# Altium schematic symbol library idc.SchLib: 19 symbols
Pins are listed as number, name and electrical type; pins without a type are passive.

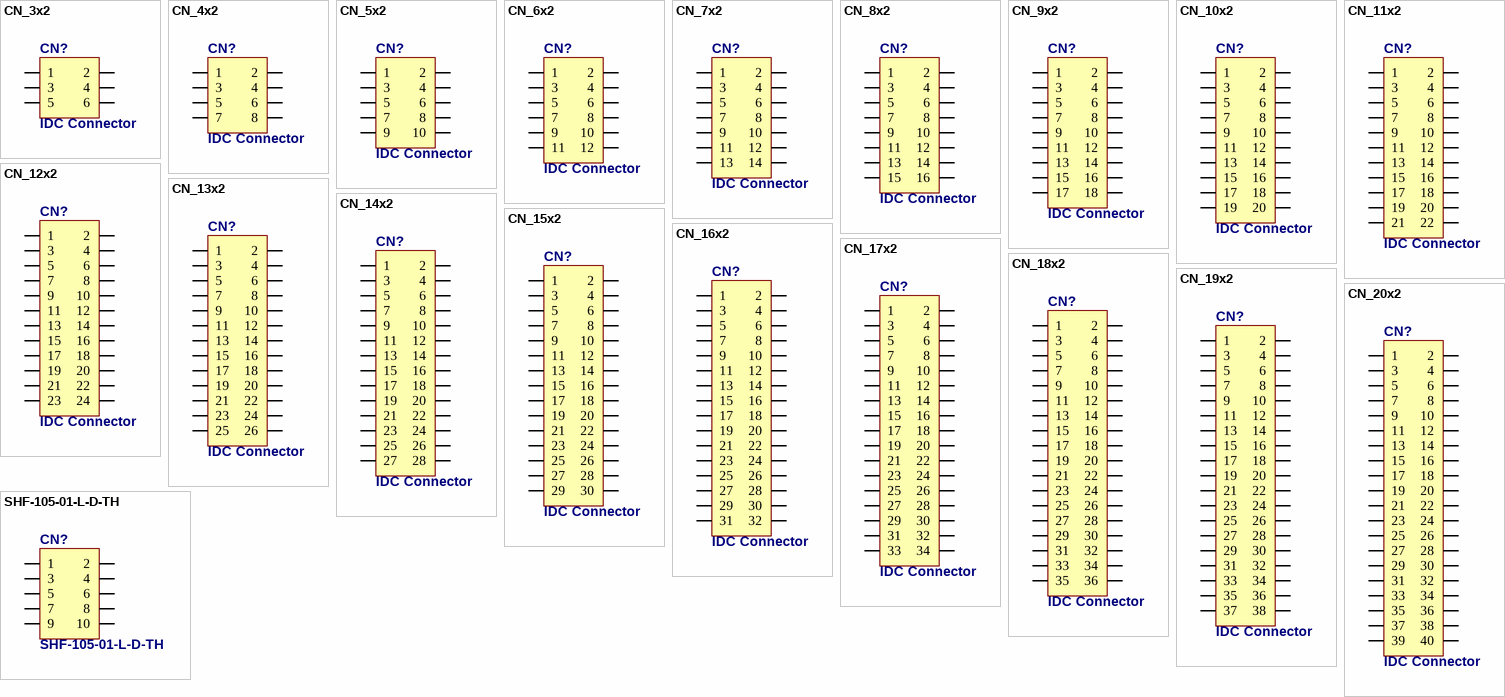
[diagram p0: symbols CN_3x2 to SHF-105-01-L-D-TH]

## CN_3x2
designator CN?, comment IDC Connector
footprint IDC6 (2.54mm, 6 Pin IDC Male Connector)
footprint IDC6_RA (2.54mm, 6 Pin IDC Male Connector)
footprint IDC6_SMD (2.54mm, 6 Pin IDC Male Connector, SMD)
pins: 1, 2, 3, 4, 5, 6

## CN_4x2
designator CN?, comment IDC Connector
pins: 1, 2, 3, 4, 5, 6, 7, 8

## CN_5x2
designator CN?, comment IDC Connector
footprint IDC10 (2.54mm, 10 Pin IDC Male Connector)
footprint IDC10_LL (2.54mm, 10 Pin IDC Male Connector, Long Locking Levers)
footprint IDC10_PT (2.54mm, 10 Pin IDC Plug Dip Type)
footprint IDC10_SMD (2.54mm, 10 Pin IDC Male Connector, SMD)
footprint IDC10_RA_LONG (2.54mm, 10 Pin IDC Male Connector, Right Angle)
footprint IDC10_RA_SHORT (2.54mm, 10 Pin IDC Male Connector, Right Angle)
pins: 1, 2, 3, 4, 5, 6, 7, 8, 9, 10

## CN_6x2
designator CN?, comment IDC Connector
footprint IDC12 (2.54mm, 12 Pin IDC Male Connector)
footprint IDC12_RA (2.54mm, 12 Pin IDC Male Connector, Right Angle)
pins: 1, 2, 3, 4, 5, 6, 7, 8, 9, 10, 11, 12

## CN_7x2
designator CN?, comment IDC Connector
footprint IDC14 (2.54mm, 14 Pin IDC Male Connector)
footprint IDC14_RA (2.54mm, 14 Pin IDC Male Connector, Right Angle)
footprint IDC14_RA_W_CN (2.54mm, 14 Pin IDC Male Connector, Right Angle)
footprint IDC14_W_CN (2.54mm, 14 Pin IDC Male Connector)
footprint IDC14_DIRECT (2.54mm, 14 Pin IDC Low Profile PCB Wire Bonding)
pins: 1, 2, 3, 4, 5, 6, 7, 8, 9, 10, 11, 12, 13, 14

## CN_8x2
designator CN?, comment IDC Connector
footprint IDC16 (2.54mm, 16 Pin IDC Male Connector)
footprint IDC16_RA (2.54mm, 16 Pin IDC Male Connector, Right Angle)
pins: 1, 2, 3, 4, 5, 6, 7, 8, 9, 10, 11, 12, 13, 14, 15, 16

## CN_9x2
designator CN?, comment IDC Connector
footprint Model Name (Footprint not found)
pins: 1, 2, 3, 4, 5, 6, 7, 8, 9, 10, 11, 12, 13, 14, 15, 16, 17, 18

## CN_10x2
designator CN?, comment IDC Connector
footprint IDC20 (2.54mm, 20 Pin IDC Male Connector)
footprint IDC20_RA (2.54mm, 20 Pin IDC Male Connector, Right Angle)
pins: 1, 2, 3, 4, 5, 6, 7, 8, 9, 10, 11, 12, 13, 14, 15, 16, 17, 18, 19, 20

## CN_11x2
designator CN?, comment IDC Connector
pins: 1, 2, 3, 4, 5, 6, 7, 8, 9, 10, 11, 12, 13, 14, 15, 16, 17, 18, 19, 20, 21, 22

## CN_12x2
designator CN?, comment IDC Connector
footprint IDC24 (2.54mm, 24 Pin IDC Male Connector)
footprint IDC24_RA (2.54mm, 24 Pin IDC Male Connector, Right Angle)
footprint IDC24_SMD (2.54mm, 24 Pin IDC Male Connector, SMD)
footprint IDC24_SMD_W_CN (2.54mm, 24 Pin IDC Male Connector, SMD)
footprint IDC24_RA _W_CN (2.54mm, 24 Pin IDC Male Connector, Right Angle)
footprint IDC24_W_CN (2.54mm, 24 Pin IDC Male Connector)
pins: 1, 2, 3, 4, 5, 6, 7, 8, 9, 10, 11, 12, 13, 14, 15, 16, 17, 18, 19, 20, 21, 22, 23, 24

## CN_13x2
designator CN?, comment IDC Connector
footprint IDC26 (2.54mm, 26 Pin IDC Male Connector)
footprint IDC26_RA (2.54mm, 26 Pin IDC Male Connector, Right Angle)
footprint IDC26_RA_W_CN (2.54mm, 26 Pin IDC Male Connector, Right Angle)
footprint IDC26_RA_LONG (2.54mm, 26 Pin IDC Male Connector, Right Angle)
footprint IDC26_RA_LONG_W_CN (2.54mm, 26 Pin IDC Male Connector, Right Angle)
pins: 1, 2, 3, 4, 5, 6, 7, 8, 9, 10, 11, 12, 13, 14, 15, 16, 17, 18, 19, 20, 21, 22, 23, 24, 25, 26

## CN_14x2
designator CN?, comment IDC Connector
pins: 1, 2, 3, 4, 5, 6, 7, 8, 9, 10, 11, 12, 13, 14, 15, 16, 17, 18, 19, 20, 21, 22, 23, 24, 25, 26, 27, 28

## CN_15x2
designator CN?, comment IDC Connector
footprint IDC30 (2.54mm, 30 Pin IDC Male Connector)
footprint IDC30_RA (2.54mm, 30 Pin IDC Male Connector, Right Angle)
pins: 1, 2, 3, 4, 5, 6, 7, 8, 9, 10, 11, 12, 13, 14, 15, 16, 17, 18, 19, 20, 21, 22, 23, 24, 25, 26, 27, 28, 29, 30

## CN_16x2
designator CN?, comment IDC Connector
pins: 1, 2, 3, 4, 5, 6, 7, 8, 9, 10, 11, 12, 13, 14, 15, 16, 17, 18, 19, 20, 21, 22, 23, 24, 25, 26, 27, 28, 29, 30, 31, 32

## CN_17x2
designator CN?, comment IDC Connector
footprint IDC34 (2.54mm, 34 Pin IDC Male Connector)
footprint IDC34_RA (2.54mm, 34 Pin IDC Male Connector, Right Angle)
pins: 1, 2, 3, 4, 5, 6, 7, 8, 9, 10, 11, 12, 13, 14, 15, 16, 17, 18, 19, 20, 21, 22, 23, 24, 25, 26, 27, 28, 29, 30, 31, 32, 33, 34

## CN_18x2
designator CN?, comment IDC Connector
pins: 1, 2, 3, 4, 5, 6, 7, 8, 9, 10, 11, 12, 13, 14, 15, 16, 17, 18, 19, 20, 21, 22, 23, 24, 25, 26, 27, 28, 29, 30, 31, 32, 33, 34, 35, 36

## CN_19x2
designator CN?, comment IDC Connector
pins: 1, 2, 3, 4, 5, 6, 7, 8, 9, 10, 11, 12, 13, 14, 15, 16, 17, 18, 19, 20, 21, 22, 23, 24, 25, 26, 27, 28, 29, 30, 31, 32, 33, 34, 35, 36, 37, 38

## CN_20x2
designator CN?, comment IDC Connector
footprint IDC40 (2.54mm, 40 Pin IDC Male Connector)
footprint IDC40_RA (2.54mm, 40 Pin IDC Male Connector, Right Angle)
footprint IDC40_SMD (2.54mm, 40 Pin IDC Male Connector, SMD)
pins: 1, 2, 3, 4, 5, 6, 7, 8, 9, 10, 11, 12, 13, 14, 15, 16, 17, 18, 19, 20, 21, 22, 23, 24, 25, 26, 27, 28, 29, 30, 31, 32, 33, 34, 35, 36, 37, 38, 39, 40

## SHF-105-01-L-D-TH
designator CN?
.050" Shrouded Terminal Strip
footprint SHF-105-01-L-D-TH (1,27mm, 10 Pin Male Connector)
pins: 1, 2, 3, 4, 5, 6, 7, 8, 9, 10